# EAGLE library part 2_RELAY_SMD (library rx)
Multi connection point. Often used as Generic Header-pin footprint for 0.1 inch spaced/style header connections On any of the 0.1 inch spaced packages, you can populate with these: Break Away Headers - Straight <https://www.sparkfun.com/products/116> (PRT-00116) Break Away Male Headers - Right Angle <https://www.sparkfun.com/products/553> (PRT-00553) Female Headers <https://www.sparkfun.com/products/115> (PRT-00115) Break Away Headers - Machine Pin <https://www.sparkfun.com/products/117> (PRT-00117) Break Away Female Headers - Swiss Machine Pin <https://www.sparkfun.com/products/743> (PRT-00743)
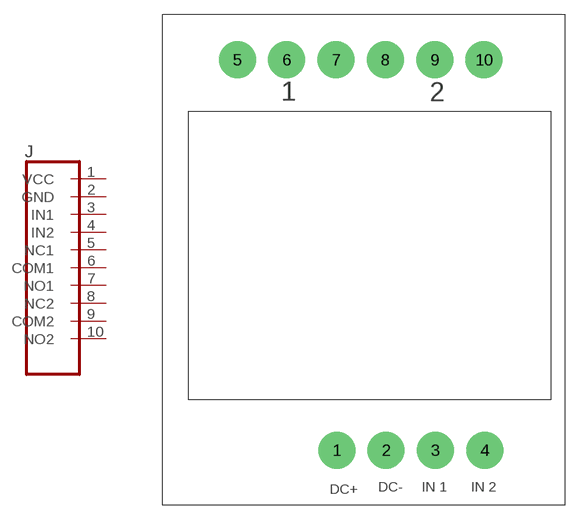
[diagram p6: symbol with the pads of 2_RELAY_SMD; footprint 2_RELAY_SMD]

Designator prefix J

## 2_RELAY_SMD  [2_RELAY_SMD]
1  VCC
2  GND
3  IN1
4  IN2
5  NC1
6  COM1
7  NO1
8  NC2
9  COM2
10  NO2

## Footprint 2_RELAY_SMD (pad centres in mm)
Plated Through Hole - 2x4 Specifications: Pin count:8 Pin pitch:0.1" Example device(s): CONN_04x2
drill 2 pad 3.81: 1 -23.53,5.68; 2 -18.45,5.68; 3 -13.37,5.68; 4 -8.29,5.68; 5 -33.76,45.88; 6 -28.68,45.88; 7 -23.6,45.88; 8 -18.52,45.88; 9 -13.44,45.88; 10 -8.36,45.88